# Altium schematic symbol library Bridge Rectifier.SchLib: 2 symbols
Pins are listed as number, name and electrical type; pins without a type are passive.

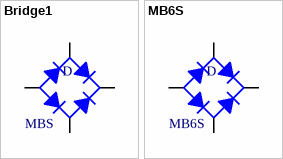
[diagram p0: symbols Bridge1 to MB6S]

## Bridge1
designator D  value MBS  (hidden comment: *)
Manufacturer: MULTICOMP; Manufacturer Code: MB1S; Voltage: 100 V; Current: 0.5 A; Farnell Code: 1861514; Unit Price: 0,133 €
footprint MBS (Footprint not found)
pins: 1 AC, 2 AC, 3 +, 4 -

## MB6S
designator D  value MB6S  (hidden comment: *)
Manufacturer: MULTICOMP; Voltage: 420 V; Current: 0.5 A; Manufacturer Code: MB6S; Farnell Code: 1861519; Unit Price: 0,172 €
footprint MB6S (Footprint not found)
pins: 1 AC, 2 AC, 3 +, 4 -